# EAGLE library part CT212 (library relay)
ULTRA SMALL AUTOMOTIVE RELAY NAiS Twin type (8 terminals) en_ds_61205_0000.pdf
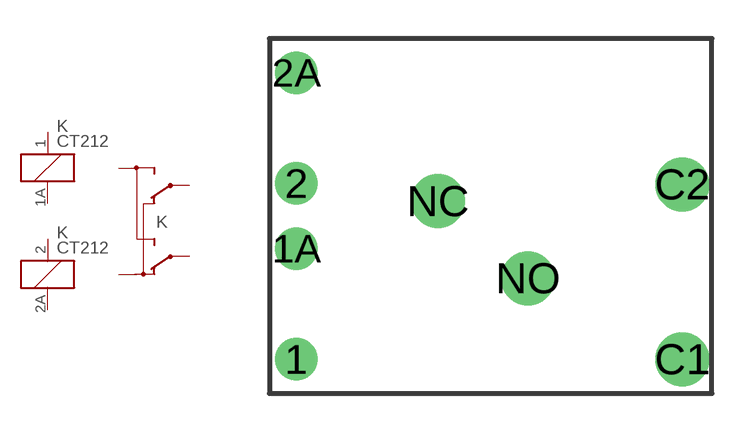
[diagram p86: symbol with the pads of CT-TWIN; footprint CT-TWIN]

Designator prefix K; gates A=K B=K 1=CF

## CT212 (OC_FARNELL: unknown; OC_NEWARK: unknown)  [CT-TWIN]
1  A:1  pas
1A  A:2  pas
2  B:1  pas
2A  B:2  pas
C1  1:COM1  pas
C2  1:COM2  pas
NC  1:NC  pas
NO  1:NO  pas

## Footprint CT-TWIN (pad centres in mm)
ULTRA SMALL AUTOMOTIVE RELAY NAiS Twin type (8 terminals) Source: http://www.mew-europe.com/.. en_ds_61205_0000.pdf
drill 1.1: 1 -7.45,-5.57; 1A -7.45,-1.27; 2 -7.45,1.27; 2A -7.45,5.57
drill 1.4: C1 7.55,-5.57; C2 7.55,1.23; NC -1.95,0.58; NO 1.55,-2.42